# Altium schematic symbol library 开关.SchLib: 1 symbol
Pins are listed as number, name and electrical type; pins without a type are passive.

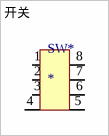
[diagram p0: symbol 开关]

## 开关
designator SW*
footprint PCBComponent_1
pins: 1, 2, 3, 4, 5, 6, 7, 8